# Altium footprint library LibraryPloshchadnaia.PcbLib: 35 footprints (part 2 of 3)
Each footprint in its own frame and in the unit in brackets; x right, y up, seen from the top. Pads: shape width x height; smd on the part's side, far side on the other; paste and mask are expansions set on the pad; w line width, h text height; cw(c..) or ccw(c..) is an arc to the next point about the centre after c.
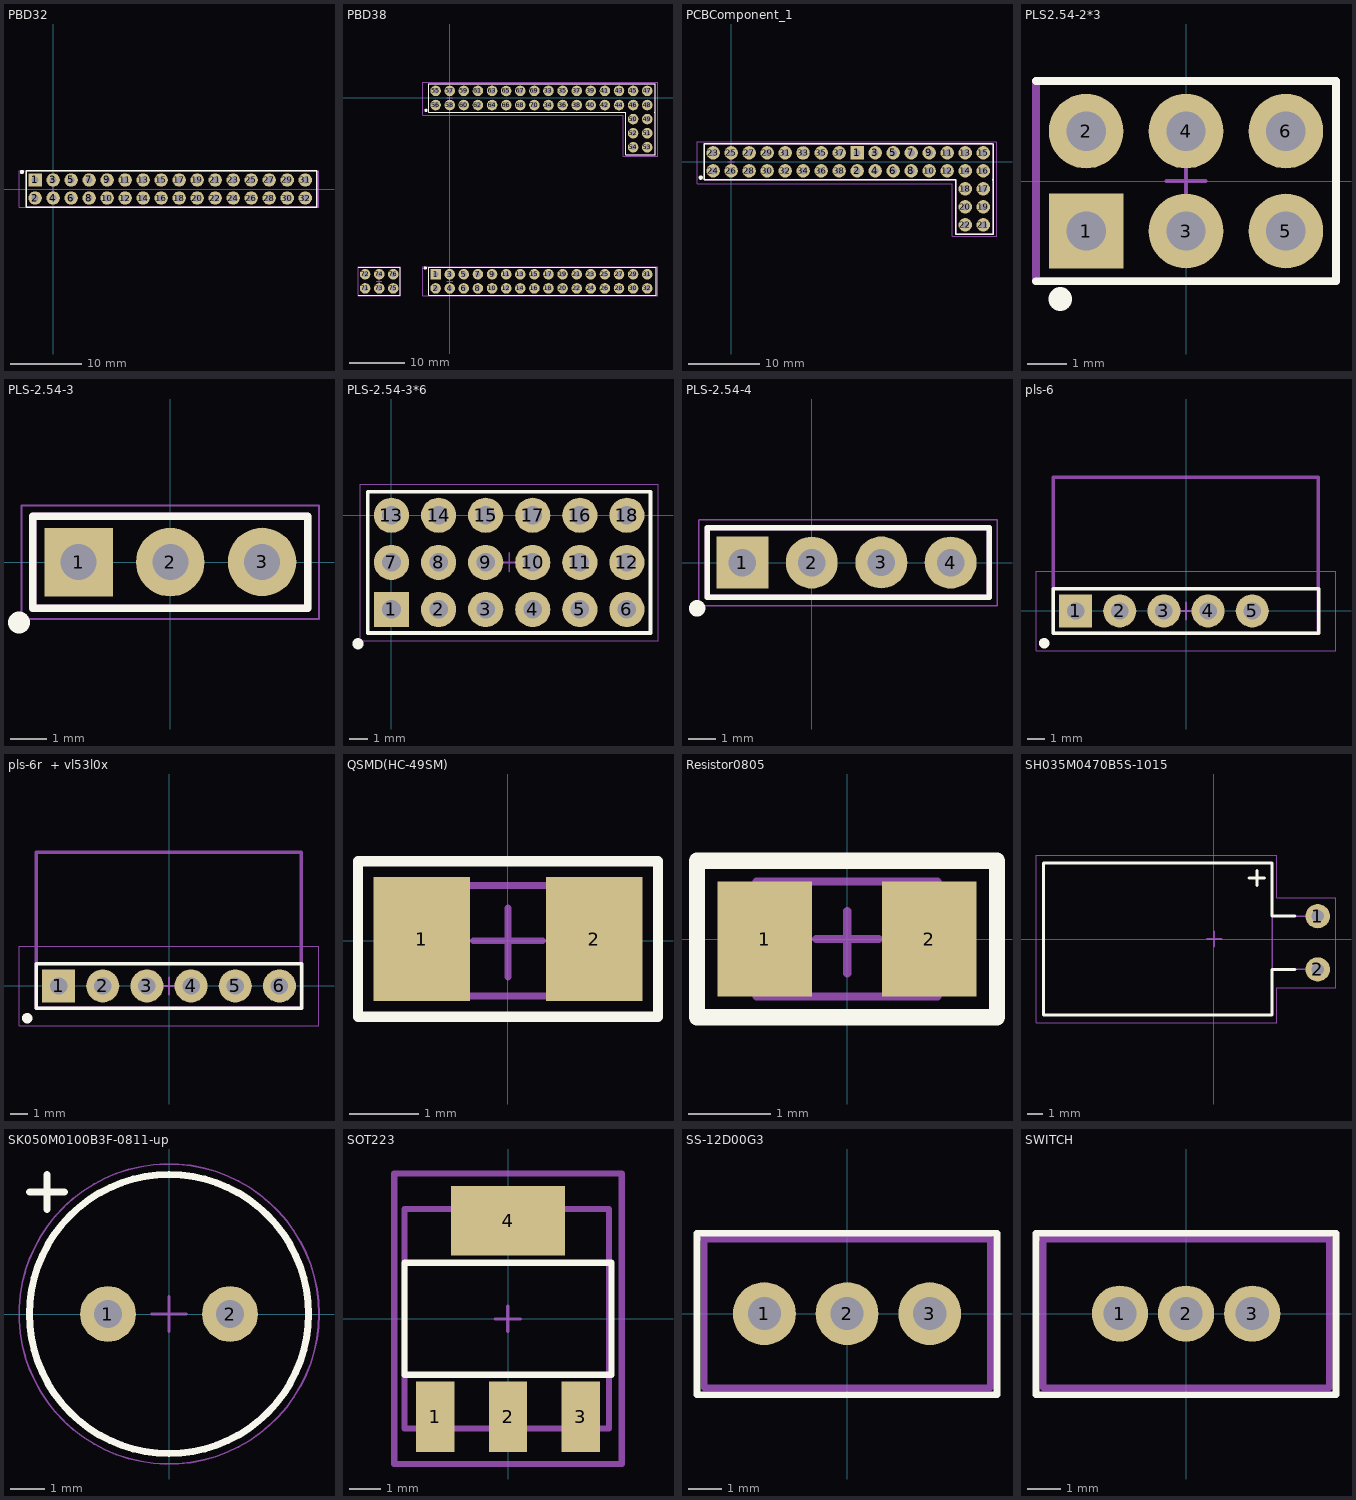
[diagram p1: the footprints below, top view; thin cyan lines are the x and y axes]

## PBD32 [mm]
pads (32):
  rect 1.9x1.9 hole 1: 1(-2.54,1.27)
  round 1.9 hole 1: 2(-2.54,-1.27) 3(0,1.27) 7(5.08,1.27) 8(5.08,-1.27) 13(12.7,1.27) 14(12.7,-1.27) 19(20.32,1.27) 20(20.32,-1.27) 25(27.94,1.27) 26(27.94,-1.27) 31(35.56,1.27) 32(35.56,-1.27)
  round 1.9 hole 1 mask+0.102: 4(0,-1.27) 5(2.54,1.27) 6(2.54,-1.27) 9(7.62,1.27) 10(7.62,-1.27) 11(10.16,1.27) 12(10.16,-1.27) 15(15.24,1.27) 16(15.24,-1.27) 17(17.78,1.27) 18(17.78,-1.27) 21(22.86,1.27) 22(22.86,-1.27) 23(25.4,1.27) 24(25.4,-1.27) 27(30.48,1.27) 28(30.48,-1.27) 29(33.02,1.27) 30(33.02,-1.27)
Top Overlay:
  circle w0.6: c-4.4,2.4 r0.001
  lines w0.2: -3.815,-2.545 -3.815,2.545 37.2,2.545 37.2,-2.545 -3.815,-2.545
Top Value (Mech7):
  text ".Comment" at -2.245,-2.066 h1.2
Top Designator:
  text ".Designator" at -2.061,1.33 h1.2
Top Outline:
  lines w0.1: -3.815,-2.545 -3.815,2.545 37.2,2.545 37.2,-2.545 -3.815,-2.545
  lines w0.2: -3.815,-2.545 -3.815,2.545 37.2,2.545 37.2,-2.545 -3.815,-2.545
Top Courtyard:
  lines w0.05: -4.815,-2.6 -4.815,2.6 37.5,2.6 37.5,-2.6 -4.815,-2.6
  lines w0.1: -0.5,0 0.5,0 ; 0,-0.5 0,0.5
3D body "PBD-32_408.stp": height 8.5, standoff -3, extent -3.6,-2.68 37.04,2.4

## PBD38 [mm]
pads (76):
  rect 1.9x1.9 hole 1: 1(-2.54,-31.75)
  round 1.9 hole 1: 2(-2.54,-34.29) 3(0,-31.75) 7(5.08,-31.75) 8(5.08,-34.29) 13(12.7,-31.75) 14(12.7,-34.29) 19(20.32,-31.75) 20(20.32,-34.29) 25(27.94,-31.75) 26(27.94,-34.29) 31(35.56,-31.75) 32(35.56,-34.29) 33(17.78,1.27) 34(17.78,-1.27) 35(20.32,1.27) 39(25.4,1.27) 40(25.4,-1.27) 45(33.02,1.27) 46(33.02,-1.27) 51(35.56,-6.35) 52(33.02,-6.35) 57(0,1.27) 58(0,-1.27) 63(7.62,1.27) 64(7.62,-1.27) 69(15.24,1.27) 70(15.24,-1.27) 71(-15.24,-34.285) 72(-15.24,-31.745) 73(-12.7,-34.285)
  round 1.9 hole 1 mask+0.102: 4(0,-34.29) 5(2.54,-31.75) 6(2.54,-34.29) 9(7.62,-31.75) 10(7.62,-34.29) 11(10.16,-31.75) 12(10.16,-34.29) 15(15.24,-31.75) 16(15.24,-34.29) 17(17.78,-31.75) 18(17.78,-34.29) 21(22.86,-31.75) 22(22.86,-34.29) 23(25.4,-31.75) 24(25.4,-34.29) 27(30.48,-31.75) 28(30.48,-34.29) 29(33.02,-31.75) 30(33.02,-34.29) 36(20.32,-1.27) 37(22.86,1.27) 38(22.86,-1.27) 41(27.94,1.27) 42(27.94,-1.27) 43(30.48,1.27) 44(30.48,-1.27) 47(35.56,1.27) 48(35.56,-1.27) 49(35.56,-3.81) 50(33.02,-3.81) 53(35.56,-8.89) 54(33.02,-8.89) 55(-2.54,1.27) 56(-2.54,-1.27) 59(2.54,1.27) 60(2.54,-1.27) 61(5.08,1.27) 62(5.08,-1.27) 65(10.146,1.257) 66(10.16,-1.27) 67(12.7,1.27) 68(12.7,-1.27) 74(-12.7,-31.745) 75(-10.16,-34.285) 76(-10.16,-31.745)
Top Overlay:
  circle w0.6: c-4.275,-2.225 r0.001
  circle w0.6: c-4.4,-30.62 r0.001
  lines w0.2: -16.515,-35.56 -8.89,-35.56 ; -16.515,-30.47 -8.885,-30.47 -8.885,-35.56 ; 36.5,-10.2 37,-10.2 37,2.545 ; 36.8,-2.545 37,-2.545 ; 36.8,2.545 -3.815,2.545 -3.815,-2.545 31.7,-2.545 31.7,-10.2 36.9,-10.2 ; -3.815,-35.565 -3.815,-30.475 37.2,-30.475 37.2,-35.565 -3.815,-35.565
Top Value (Mech7):
  text ".Comment" at -2.245,2.066 h1.2
  text ".Comment" at -2.245,-35.086 h1.2
  text ".Comment" at -14.945,-35.08 h1.2
Top Designator:
  text ".Designator" at -2.061,-1.33 h1.2
  text ".Designator" at -2.061,-31.69 h1.2
  text ".Designator" at -14.761,-31.685 h1.2
Top Outline:
  lines w0.1: -8.89,-35.56 -16.515,-35.56 -16.515,-30.47 -8.885,-30.47 -8.885,-35.56 ; 31.7,-2.545 -3.815,-2.545 -3.815,2.545 37,2.545 ; 37,-2.545 37,-2.375 ; -3.815,-35.565 -3.815,-30.475 37.2,-30.475 37.2,-35.565 -3.815,-35.565
  lines w0.2: 37,2.5 37,-10.2 31.7,-10.2 31.7,-2.545 -3.815,-2.545 -3.815,2.545 37,2.545 ; -16.515,-35.56 -8.885,-35.56 -8.885,-30.47 -16.515,-30.47 -16.515,-35.56 ; -3.815,-35.565 -3.815,-30.475 37.2,-30.475 37.2,-35.565 -3.815,-35.565
Top Courtyard:
  lines w0.05: -16.5,-35.615 -8.9,-35.615 -8.9,-30.415 -16.5,-30.415 -16.5,-35.615 ; -4.815,-35.62 -4.815,-30.42 37.5,-30.42 37.5,-35.62 -4.815,-35.62 ; -4.815,-3.1 31.2,-3.1 31.2,-10.5 37.5,-10.5 37.5,-2.84 37.5,2.84 -4.815,2.84 -4.815,-2.84 -4.815,-3.1
  lines w0.1: -13.2,-33.015 -12.2,-33.015 ; -12.7,-33.515 -12.7,-32.515 ; -0.5,-33.02 0.5,-33.02 ; -0.5,0 0.5,0 ; 0,-33.52 0,-32.52 ; 0,-0.5 0,0.5
3D body "PBD-32_408.stp": height 8.5, standoff -3, extent -3.7,-2.58 36.94,2.5
3D body "DS1021-1x3SF112 (PLS-3).STEP": height 8.59, standoff -2.95, extent 31.76,-10.31 34.3,-2.69
3D body "DS1021-1x3SF112 (PLS-3).STEP": height 8.59, standoff -2.95, extent 34.3,-10.31 36.84,-2.69
3D body "PBD-32_408.stp": height 8.5, standoff -3, extent -3.94,-35.54 36.7,-30.46
3D body "MEGA 2560 PRO (EMBED).stp": height 13.94, standoff 7.97, extent -17.184,-35.6 36.9,2.4
3D body "DS1021-1x3SF112 (PLS-3).STEP": height 8.59, standoff -2.95, extent -16.41,-33.015 -8.79,-30.475
3D body "DS1021-1x3SF112 (PLS-3).STEP": height 8.59, standoff -2.95, extent -16.41,-35.555 -8.79,-33.015
3D body "PBD-32_408.stp": height 8.5, standoff -3, extent -16.64,-35.535 24,-30.455

## PCBComponent_1 [mm]
pads (38):
  rect 1.9x1.9 hole 1: 1(17.78,1.27)
  round 1.9 hole 1: 2(17.78,-1.27) 3(20.32,1.27) 7(25.4,1.27) 8(25.4,-1.27) 13(33.02,1.27) 14(33.02,-1.27) 19(35.56,-6.35) 20(33.02,-6.35) 25(0,1.27) 26(0,-1.27) 31(7.62,1.27) 32(7.62,-1.27) 37(15.24,1.27) 38(15.24,-1.27)
  round 1.9 hole 1 mask+0.102: 4(20.32,-1.27) 5(22.86,1.27) 6(22.86,-1.27) 9(27.94,1.27) 10(27.94,-1.27) 11(30.48,1.27) 12(30.48,-1.27) 15(35.56,1.27) 16(35.56,-1.27) 17(35.56,-3.81) 18(33.02,-3.81) 21(35.56,-8.89) 22(33.02,-8.89) 23(-2.54,1.27) 24(-2.54,-1.27) 27(2.54,1.27) 28(2.54,-1.27) 29(5.08,1.27) 30(5.08,-1.27) 33(10.146,1.257) 34(10.16,-1.27) 35(12.7,1.27) 36(12.7,-1.27)
Top Overlay:
  circle w0.6: c-4.275,-2.225 r0.001
  lines w0.2: 36.5,-10.2 37,-10.2 37,2.545 ; 36.8,-2.545 37,-2.545 ; 36.8,2.545 -3.815,2.545 -3.815,-2.545 31.7,-2.545 31.7,-10.2 36.9,-10.2
Top Value (Mech7):
  text ".Comment" at -2.245,2.066 h1.2
Top Designator:
  text ".Designator" at -2.061,-1.33 h1.2
Top Outline:
  lines w0.1: 31.7,-2.545 -3.815,-2.545 -3.815,2.545 37,2.545 ; 37,-2.545 37,-2.375
  lines w0.2: 37,2.5 37,-10.2 31.7,-10.2 31.7,-2.545 -3.815,-2.545 -3.815,2.545 37,2.545
Top Courtyard:
  lines w0.05: -4.815,-3.1 31.2,-3.1 31.2,-10.5 37.5,-10.5 37.5,-2.84 37.5,2.84 -4.815,2.84 -4.815,-2.84 -4.815,-3.1
  lines w0.1: -0.5,0 0.5,0 ; 0,-0.5 0,0.5
3D body "PBD-32_408.stp": height 8.5, standoff -3, extent -3.7,-2.58 36.94,2.5
3D body "DS1021-1x3SF112 (PLS-3).STEP": height 8.59, standoff -2.95, extent 31.76,-10.31 34.3,-2.69
3D body "DS1021-1x3SF112 (PLS-3).STEP": height 8.59, standoff -2.95, extent 34.3,-10.31 36.84,-2.69

## PLS2.54-2*3 [mm]
pads (6):
  rect 1.9x1.9 hole 1: 1(-2.54,-1.27)
  round 1.9 hole 1: 2(-2.54,1.27) 3(0,-1.27)
  round 1.9 hole 1 mask+0.102: 4(0,1.27) 5(2.54,-1.27) 6(2.54,1.27)
Top Overlay:
  circle w0.6: c-3.2,-3 r0.001
  lines w0.2: -3.815,-2.545 3.81,-2.545 ; -3.815,2.545 3.815,2.545 3.815,-2.545
Top Value (Mech7):
  text ".Comment" at -2.245,-2.066 h1.2
Top Designator:
  text ".Designator" at -2.061,1.33 h1.2
Top Outline:
  lines w0.1: 3.81,-2.545 -3.815,-2.545 -3.815,2.545 3.815,2.545 3.815,-2.545
  lines w0.2: -3.815,-2.545 -3.815,2.545 3.815,2.545 3.815,-2.545 -3.815,-2.545
Top Courtyard:
  lines w0.05: -3.8,-2.6 -3.8,2.6 3.8,2.6 3.8,-2.6 -3.8,-2.6
  lines w0.1: -0.5,0 0.5,0 ; 0,-0.5 0,0.5
3D body "DS1021-1x3SF112 (PLS-3).STEP": height 8.59, standoff -2.95, extent -3.71,-2.54 3.91,0
3D body "DS1021-1x3SF112 (PLS-3).STEP": height 8.59, standoff -2.95, extent -3.71,0 3.91,2.54

## PLS-2.54-3 [mm]
pads (3):
  rect 1.9x1.9 hole 1: 1(-2.54,0)
  round 1.9 hole 1: 2(0,0) 3(2.545,0.005)
Top Overlay:
  circle w0.6: c-4.195,-1.675 r0.001
  lines w0.2: -3.815,1.275 -3.815,-1.275 3.815,-1.275 3.815,1.275 -3.81,1.275
Top Value (Mech7):
  text ".Comment" at -3.175,-1.143 h1.2
Top Designator:
  text ".Designator" at -3.763,-0.409 h1.5
Top Outline:
  circle w0.35: c-3.065,0.325 r0.15
  lines w0.1: -3.815,-1.275 -3.815,1.275 3.815,1.275 3.815,-1.275 -3.815,-1.275
  lines w0.2: -3.815,-1.275 -3.815,1.275 3.815,1.275 3.815,-1.275 -3.815,-1.275
Top Courtyard:
  lines w0.05: -4.125,1.575 -4.125,-1.575 4.115,-1.575 ; -4.115,1.575 4.125,1.575 4.125,-1.575
  lines w0.1: -0.5,0 0.5,0 ; 0,-0.5 0,0.5
3D body "DS1021-1x3SF112 (PLS-3).STEP": height 8.59, standoff -2.95, extent -3.81,-1.27 3.81,1.27

## PLS-2.54-3*6 [mm]
pads (18):
  rect 1.9x1.9 hole 1: 1(0,-5.08)
  round 1.9 hole 1: 2(2.54,-5.08) 3(5.08,-5.08) 4(7.62,-5.08) 5(10.16,-5.08) 6(12.7,-5.08) 7(0,-2.54) 8(2.54,-2.54) 9(5.08,-2.54) 10(7.62,-2.54) 11(10.16,-2.54) 12(12.7,-2.54) 13(0,0) 14(2.54,0) 15(5.08,0) 16(10.16,0) 17(7.62,0) 18(12.7,0)
Top Overlay:
  circle w0.6: c-1.805,-6.93 r0.001
  lines w0.2: -1.275,-3.815 -1.275,-1.265 ; -1.275,-3.805 -1.275,-6.355 13.975,-6.355 13.975,-3.805 ; -1.275,-1.275 -1.275,1.275 13.975,1.275 13.975,-1.275 ; 13.975,-3.815 13.975,-1.265
Top Value (Mech3):
  text ".Comment" at 9.142,-3.952 h1.52
  text ".Comment" at 9.142,-6.492 h1.52
  text ".Comment" at 9.142,-9.032 h1.52
Top Designator:
  text ".Designator" at 9.132,-2.729 h1.52
  text ".Designator" at 9.132,-5.269 h1.52
  text ".Designator" at 9.132,-7.809 h1.52
Top Outline:
  circle w0.35: c-0.525,0.325 r0.15
  circle w0.35: c-0.525,-2.215 r0.15
  circle w0.35: c-0.525,-4.755 r0.15
  lines w0.1: -1.275,-3.815 -1.275,-1.265 ; -1.275,-3.805 -1.275,-6.355 13.975,-6.355 13.975,-3.805 ; -1.275,-1.275 -1.275,1.275 13.975,1.275 13.975,-1.275 ; 13.975,-3.815 13.975,-1.265
Top Courtyard:
  lines w0.05: -1.675,-4.215 -1.675,-0.865 ; -1.675,-3.405 -1.675,-6.755 14.375,-6.755 14.375,-3.405 ; -1.675,-1.675 -1.675,1.675 14.375,1.675 14.375,-1.675 ; 14.375,-4.215 14.375,-0.865
  lines w0.1: 5.85,-2.54 6.85,-2.54 ; 6.35,-3.04 6.35,-2.04
3D body "PLS-6.STEP": height 8.54, standoff -3, extent -1.265,-1.27 13.975,1.27
3D body "PLS-6.STEP": height 8.54, standoff -3, extent -1.265,-3.81 13.975,-1.27
3D body "PLS-6.STEP": height 8.54, standoff -3, extent -1.265,-6.35 13.975,-3.81

## PLS-2.54-4 [mm]
pads (4):
  rect 1.9x1.9 hole 1: 1(-2.54,0)
  round 1.9 hole 1: 2(0,0) 3(2.545,0.005) 4(5.08,0)
Top Overlay:
  circle w0.6: c-4.195,-1.675 r0.001
  lines w0.2: -3.815,1.275 -3.815,-1.275 6.5,-1.275 6.5,1.275 -3.81,1.275
Top Value (Mech7):
  text ".Comment" at -3.175,-1.143 h1.2
Top Designator:
  text ".Designator" at -3.763,-0.409 h1.5
Top Outline:
  circle w0.35: c-3.065,0.325 r0.15
  lines w0.1: -3.815,-1.275 -3.815,1.275 6.5,1.275 6.5,-1.275 -3.815,-1.275
  lines w0.2: -3.815,-1.275 -3.815,1.275 6.5,1.275 6.5,-1.275 -3.815,-1.275
Top Courtyard:
  lines w0.05: -4.125,1.575 -4.125,-1.575 6.775,-1.575 6.775,1.575 -4.115,1.575
  lines w0.1: -0.5,0 0.5,0 ; 0,-0.5 0,0.5
3D body "PLS-4.step": height 8.6, standoff -3, extent -3.79,-1.37 6.37,1.17

## pls-6 [mm]
pads (5):
  rect 1.9x1.9 hole 1: 1(-6.35,0)
  round 1.9 hole 1: 2(-3.81,0) 3(-1.27,0)
  round 1.9 hole 1 mask+0.102: 4(1.27,0) 5(3.81,0)
Top Overlay:
  circle w0.6: c-8.155,-1.85 r0.001
  lines w0.2: -7.625,-1.275 7.625,-1.275 7.625,1.275 -7.625,1.275 -7.625,-1.275
Top Value (Mech7):
  text ".Comment" at -6.985,-1.143 h1.2
Top Designator:
  text ".Designator" at -7.573,-0.409 h1.5
Top Outline:
  circle w0.35: c-6.875,0.325 r0.15
  lines w0.1: -7.625,-1.275 -7.625,1.275 7.625,1.275 7.625,-1.275 -7.625,-1.275
  lines w0.2: -7.625,-1.275 -7.625,7.675 7.6,7.675 7.6,-1.275 -7.625,-1.275
Top Courtyard:
  lines w0.05: -8.625,-2.275 8.625,-2.275 8.625,2.275 -8.625,2.275 -8.625,-2.275
  lines w0.1: -0.5,0 0.5,0 ; 0,-0.5 0,0.5
3D body "User Library-PLS-6R-1.STEP": height 5.45, standoff -3, extent -7.57,-1.27 7.67,7.35

## pls-6r  + vl53l0x [mm]
pads (6):
  rect 1.9x1.9 hole 1: 1(-6.35,0)
  round 1.9 hole 1: 2(-3.81,0) 3(-1.27,0)
  round 1.9 hole 1 mask+0.102: 4(1.27,0) 5(3.81,0) 6(6.35,0)
Top Overlay:
  circle w0.6: c-8.155,-1.85 r0.001
  lines w0.2: -7.625,-1.275 7.625,-1.275 7.625,1.275 -7.625,1.275 -7.625,-1.275
Top Value (Mech7):
  text ".Comment" at -6.985,-1.143 h1.2
Top Designator:
  text ".Designator" at -7.573,-0.409 h1.5
Top Outline:
  circle w0.35: c-6.875,0.325 r0.15
  lines w0.1: -7.625,-1.275 -7.625,1.275 7.625,1.275 7.625,-1.275 -7.625,-1.275
  lines w0.2: -7.625,-1.275 -7.625,7.675 7.6,7.675 7.6,-1.275 -7.625,-1.275
Top Courtyard:
  lines w0.05: -8.625,-2.275 8.625,-2.275 8.625,2.275 -8.625,2.275 -8.625,-2.275
  lines w0.1: -0.5,0 0.5,0 ; 0,-0.5 0,0.5
3D body "User Library-PLS-6R-1.STEP": height 5.45, standoff -3, extent -7.57,-1.27 7.67,7.35
3D body "User Library-VL53l1X-1.step": height 14.25, standoff 3.75, extent -12.5,3 12.5,7

## QSMD(HC-49SM) [mm]
pads (2):
  rect 1.4x1.8 smd: 1(-1.25,0.025) 2(1.25,0.025)
Top Overlay:
  lines w0.15: -2.175,-1.1 2.175,-1.1 2.175,1.15 -2.175,1.15 -2.175,-1.1
Top Value (Mech7):
  text ".Comment" at -2.032,-2.286 h1.2
Top Designator:
  text ".Designator" at -2.032,1.397 h1.2
Top Outline:
  lines w0.1: -1.6,-0.8 -1.6,0.8 1.6,0.8 1.6,-0.8 -1.6,-0.8
Top Courtyard:
  lines w0.1: -0.5,0 0.5,0 ; 0.002,-0.523 0.002,0.477 ; -2.175,-1.1 2.175,-1.1 2.175,1.15 -2.175,1.15 -2.175,-1.1
3D body "User Library-KX-327.step": height 0.8, standoff 0, extent -1.6,-0.75 1.6,0.75

## Resistor0805 [mm]
pads (2):
  rect 1.15x1.4 smd: 1(-1,0) 2(1,0)
Top Overlay:
  lines w0.2: -1.825,-0.95 1.825,-0.95 1.825,0.95 -1.825,0.95 -1.825,-0.95
Top Value (Mech7):
  text ".Comment" at 2.1,-0.875 h1.2
Top Designator:
  text ".Designator" at 2.125,0.275 h1.2
Top Outline:
  lines w0.1: -1.1,-0.7 1.1,-0.7 1.1,0.7 -1.1,0.7 -1.1,-0.7
Top Courtyard:
  lines w0.05: -1.825,-0.95 -1.825,0.95 1.825,0.95 1.825,-0.95 -1.825,-0.95
  lines w0.1: -0.375,0 0.385,0 ; 0.004,-0.42 0.004,0.34
3D body: height 0.45, standoff 0, extent 0.6,-0.7 1.1,0.7
3D body: height 0.45, standoff 0, extent -1.1,-0.7 -0.6,0.7
3D body: height 0.45, standoff 0, extent -0.6,-0.7 0.6,0.7

## SH035M0470B5S-1015 [mm]
pads (2):
  round 1.6 hole 0.8: 1(6.82,1.51) 2(6.82,-1.99)
Top Overlay:
  lines w0.2: 2.32,4.01 3.32,4.01 ; 2.82,3.51 2.82,4.51 ; 5.32,-1.99 3.82,-1.99 3.82,-2.99 3.82,-4.99 -11.18,-4.99 -11.18,5.01 3.82,5.01 3.82,3.01 3.82,1.51 5.32,1.51
Top Value (Mech7):
  text ".Comment" at -1.702,-1.464 h1.2
Top Designator:
  text ".Designator" at -2.558,0.875 h1.5
Top Outline:
  lines w0.1: 3.82,-1.99 6.82,-1.99 ; 3.82,1.51 6.82,1.51 ; -11.18,-4.99 3.82,-4.99 3.82,5.01 -11.18,5.01 -11.18,-4.99
Top Courtyard:
  lines w0.05: -11.68,-5.49 4.12,-5.49 4.12,-3.19 8.02,-3.19 8.02,2.71 4.12,2.71 4.12,5.51 -11.68,5.51 -11.68,-5.49
  lines w0.1: -0.48,0.01 0.52,0.01 ; 0.02,-0.49 0.02,0.51
3D body: height 4.3, standoff 3.7, extent 3.82,-2.29 6.82,-1.69
3D body: height 4.3, standoff 3.7, extent 3.82,1.211 6.82,1.81
3D body: height 4.3, standoff 3.7, extent 6.52,-2.29 7.12,-1.69
3D body: height 4.3, standoff 3.7, extent 6.518,1.21 7.118,1.81
3D body: height 4, standoff -4, extent 6.522,-2.289 7.12,-1.69
3D body: height 4, standoff -4, extent 6.52,1.211 7.118,1.81
3D body: height 10, standoff 0, extent -11.18,-4.99 3.82,5.01

## SK050M0100B3F-0811-up [mm]
pads (2):
  round 1.6 hole 0.8: 1(-1.75,0) 2(1.75,0)
Top Overlay:
  circle w0.2: c0,0 r4
  lines w0.2: -4,3.5 -3,3.5 ; -3.5,3 -3.5,4
Top Value (Mech3):
  text ".Comment" at -1.722,-1.874 h1.2
Top Designator:
  text ".Designator" at -2.578,1.165 h1.5
Top Outline:
  circle w0.1: c0,0 r4
Top Courtyard:
  circle w0.05: c0,0 r4.3
  lines w0.1: -0.5,0 0.5,0 ; 0,-0.5 0,0.5
3D body: height 4.3, standoff 3.7, extent 0.95,-0.3 1.55,0.3
3D body: height 4.3, standoff 3.7, extent -1.55,-0.302 -0.95,0.298
3D body: height 4, standoff -4, extent 0.95,-0.298 1.549,0.3
3D body: height 4, standoff -4, extent -1.55,-0.3 -0.951,0.298
3D body: height 11.5, standoff 0, extent -4,-3.994 4,3.994

## SOT223 [mm]
pads (4):
  rect 1.219x2.235 smd: 1(-2.311,-3.099) 2(0,-3.099) 3(2.311,-3.099)
  rect 3.6x2.2 smd: 4(0,3.099)
Top Overlay:
  lines w0.203: -3.277,-1.778 -3.277,1.778 3.277,1.778 3.277,-1.778 -3.277,-1.778
Top Value (Mech7):
  text ".Comment" at -2.4,0.616 h1.52
Top Designator:
  text ".Designator" at -2.8,-1.32 h1.52
Top Outline:
  lines w0.2: -3.25,3.475 -3.275,3.475 ; -3.275,3.475 -3.275,-3.475 3.2,-3.475 3.2,3.475 -3.275,3.475
Top Courtyard:
  lines w0.1: -0.41,-0.003 0.39,-0.003 ; -0.01,-0.403 -0.01,0.397
  lines w0.2: -3.6,-4.6 3.6,-4.6 3.6,4.6 -3.6,4.6 -3.6,-4.6
3D body "CircuitWorks-SOT-223.step": height 1.7, standoff 0.02, extent -3.25,-3.48 3.25,3.48

## SS-12D00G3 [mm]
pads (3):
  round 1.9 hole 1: 1(-2.5,0) 2(0,0)
  round 1.9 hole 1 mask+0.102: 3(2.5,0)
Top Overlay:
  lines w0.2: -4.537,-2.447 -4.537,2.425 -3.409,2.425 4.531,2.425 4.531,-2.447 -4.537,-2.447
Top Value (Mech7):
  text ".Comment" at 4.96,-0.861 h1.2
Top Designator:
  text ".Designator" at 4.985,0.289 h1.2
Top Outline:
  lines w0.1: -4.537,-2.445 -4.537,2.415 4.532,2.415 4.532,-2.445 -4.537,-2.445
  lines w0.2: -4.346,2.255 4.329,2.255 4.329,-2.245 -4.321,-2.245 -4.321,2.405
3D body "SS12D00G4 1P2T Straight.step": height 7.45, standoff -4.62, extent -4.305,-1.85 4.305,2

## SWITCH [mm]
pads (3):
  round 1.7 hole 1: 1(-2,0) 2(0,0) 3(2,0)
Top Overlay:
  lines w0.2: -4.537,-2.447 4.531,-2.447 4.531,2.425 -3.409,2.425 -4.537,2.425 -4.537,-2.447
Top Value (Mech7):
  text ".Comment" at 4.96,-0.861 h1.2
Top Designator:
  text ".Designator" at 4.985,0.289 h1.2
Top Outline:
  lines w0.1: -4.537,-2.445 4.532,-2.445 4.532,2.415 -4.537,2.415 -4.537,-2.445
  lines w0.2: -4.346,2.255 4.329,2.255 4.329,-2.245 -4.321,-2.245 -4.321,2.405
3D body "User Library-KLS7-SS03-12D02-EG-3.STEP": height 7.33, standoff -2.8, extent -4.196,-2.195 4.504,2.305